# EAGLE library part MS860702BA01-50 (library Sensors)
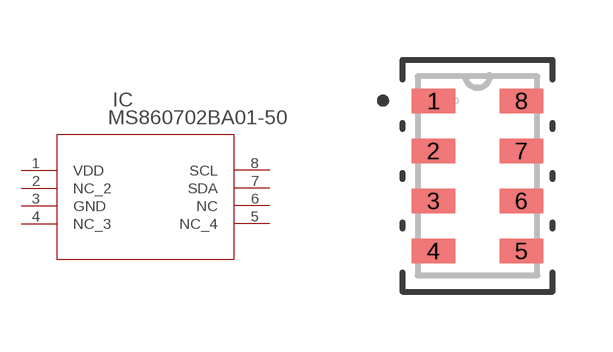
[diagram p9: symbol with the pads of MS8607-02BA01; footprint MS8607-02BA01]

Designator prefix IC

## MS860702BA01-50 (CATEGORY: Board Level Pressure Sensors; COPYRIGHT: Copyright (C) 2016 Accelerated Designs. All rights reserved; DATASHEET: https://www.te.com/commerce/DocumentDelivery/DDEController?Action=showdoc&DocId=Data+Sheet%7FMS8607-02BA01%7FB3%7Fpdf%7FEnglish%7FENG_DS_MS8607-02BA01_B3.pdf%7FMS860702BA01-50; DESCRIPTION: PTH COMBINATION DIGITAL SENSOR; MANUFACTURER_PART_NUMBER: MS860702BA01-50; OUTPUT-SPAN: 24 bit ADC; PACKAGE: Surface Mountable; PART_STATUS: active; PRODUCT_DESCRIPTION: PTH COMBINATION DIGITAL SENSOR; PRODUCT_TYPE: -; SENSOR_TYPE: Digital Pressure and Altimeter Sensor Modules; SERIES: MEAS MS8607; SUPPLY_VOLTAGE: 1.5  3.6; TE_PART_NUMBER: MS860702BA01-50; VENDOR: TE Connectivity)  [MS8607-02BA01]
1  VDD  pwr
2  NC_2  nc
3  GND  pas
4  NC_3  nc
5  NC_4  nc
6  NC  nc
7  SDA
8  SCL  in

## Footprint MS8607-02BA01 (pad centres in mm)
smd 1.092 x 0.61: 1 -1.1,1.875; 2 -1.1,0.625; 3 -1.1,-0.625; 4 -1.1,-1.875; 5 1.1,-1.875; 6 1.1,-0.625; 7 1.1,0.625; 8 1.1,1.875